# EAGLE library part AQM0802A-RN-GBW (library AQM0802A-RN-GBW)
Display 1.5mm pitch Source: Datasheet <http://akizukidenshi.com/download/ds/xiamen/AQM0802.pdf>
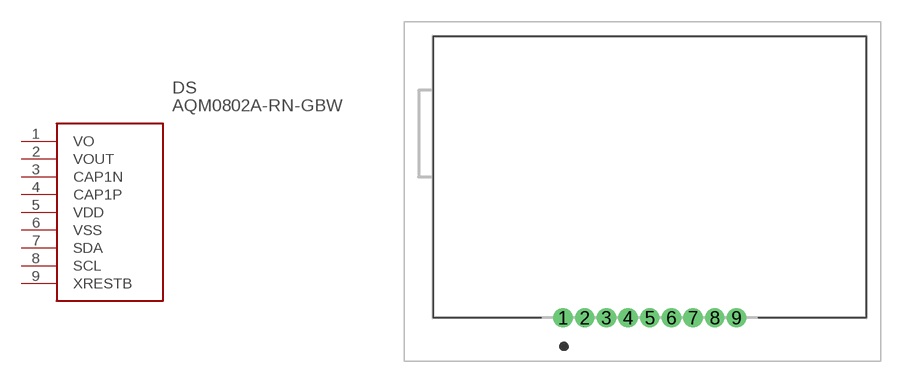
[diagram p0: symbol with the pads of AQM0802ARNGBW; footprint AQM0802ARNGBW]

Designator prefix DS

## AQM0802A-RN-GBW (Description: Display 1.5mm pitch; Height: 1.8mm; Manufacturer_Name: Costava; Manufacturer_Part_Number: AQM0802A-RN-GBW)  [AQM0802ARNGBW]
1  VO
2  VOUT
3  CAP1N
4  CAP1P
5  VDD
6  VSS
7  SDA
8  SCL
9  XRESTB

## Footprint AQM0802ARNGBW (pad centres in mm)
AQM0802A-RN-GBW-2
drill 0.78 pad 1.337: 1 0,0; 2 1.5,0; 3 3,0; 4 4.5,0; 5 6,0; 6 7.5,0; 7 9,0; 8 10.5,0; 9 12,0